# Altium schematic symbol library ISO Dual I2C.Schlib: 1 symbol
Pins are listed as number, name and electrical type; pins without a type are passive.

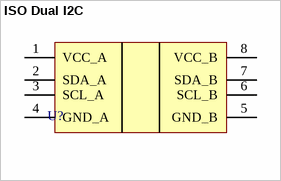
[diagram p0: symbol ISO Dual I2C]

## ISO Dual I2C
designator U?
Digital Isolation Dual Ch Bidirectional I2C; Revision: 1
footprint SOIC127P600X175-8N (SOIC, 8-Leads, Body 4.91x3.95mm, Pitch 1.27mm, IPC Medium Density)
pins: 1 VCC_A, 2 SDA_A, 3 SCL_A, 4 GND_A, 5 GND_B, 6 SCL_B, 7 SDA_B, 8 VCC_B